# Altium schematic symbol library Schlib1.SchLib: 6 symbols
Pins are listed as number, name and electrical type; pins without a type are passive.

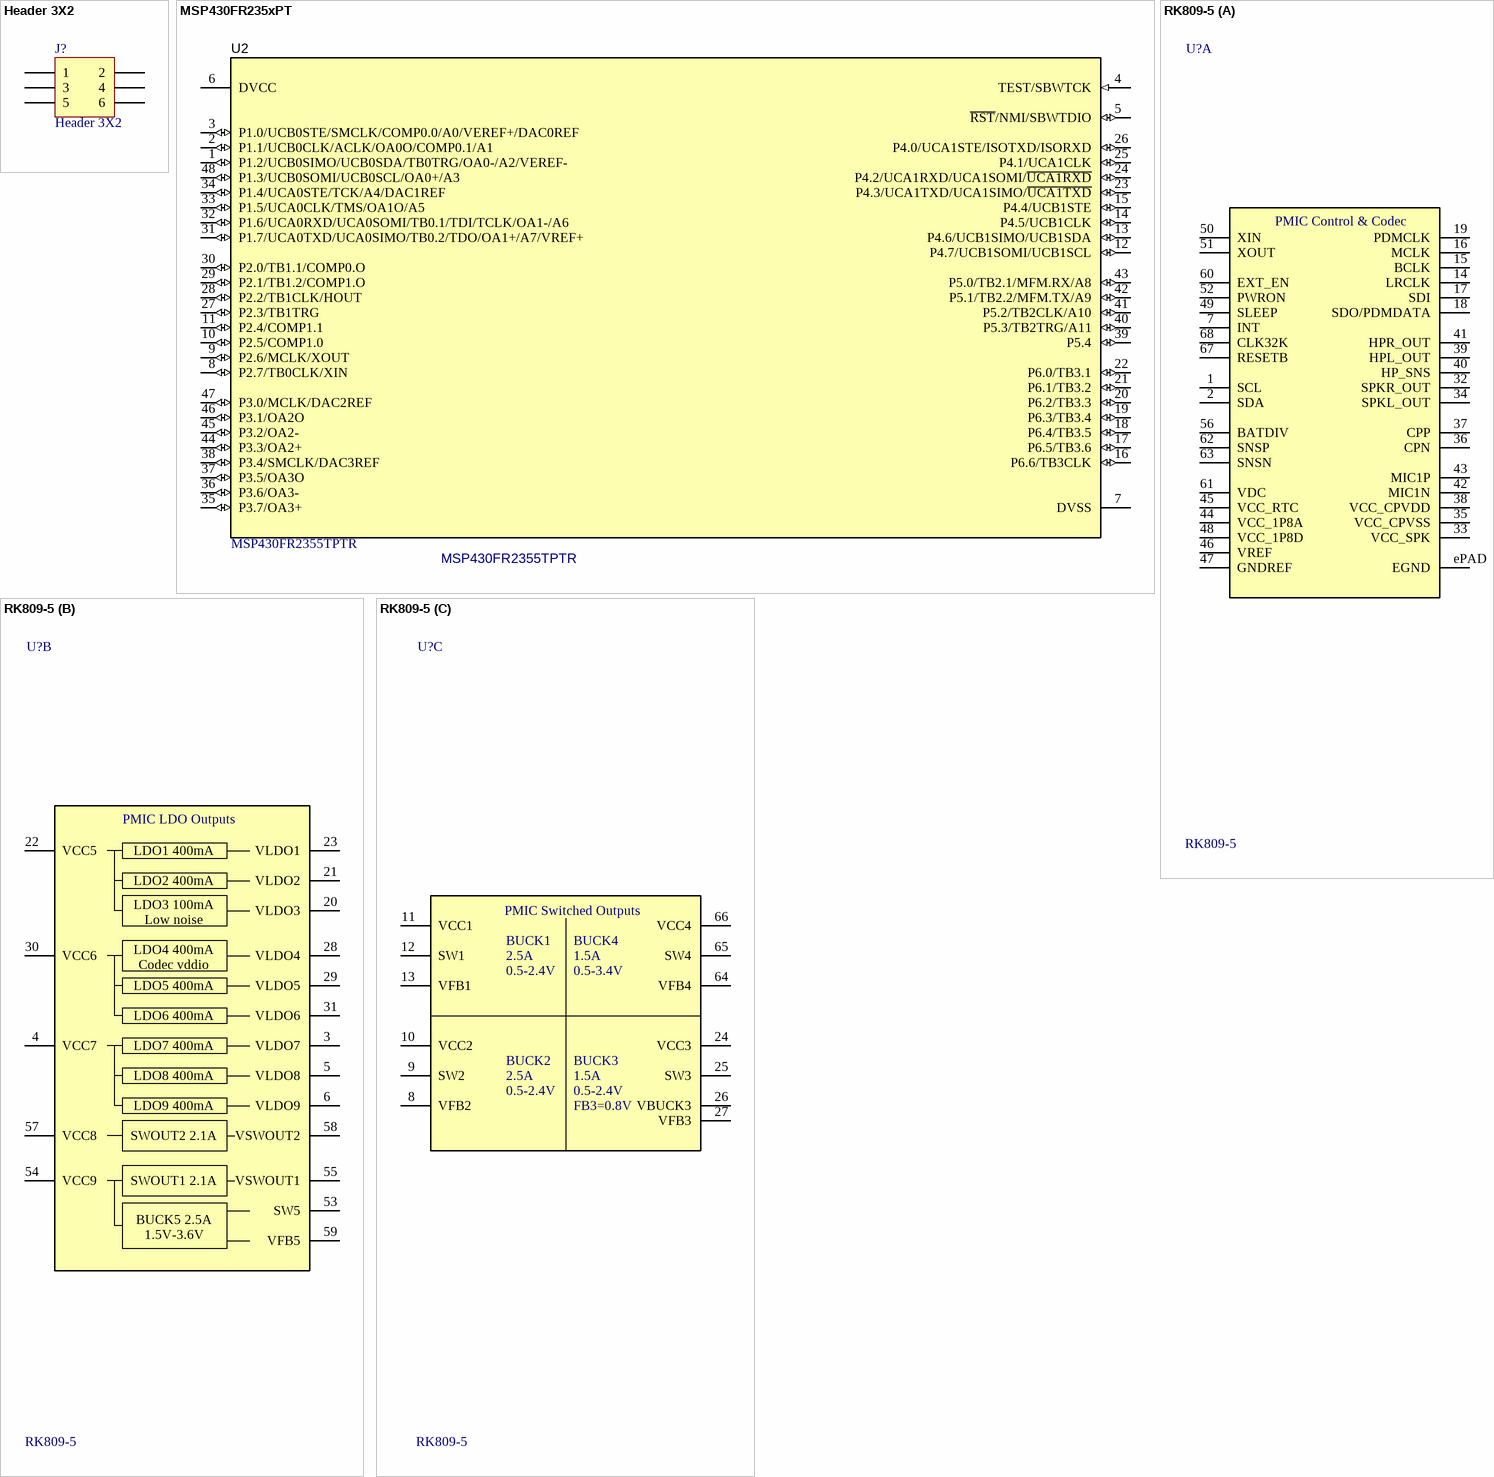
[diagram p0: symbols Header 3X2 to RK809-5]

## Header 3X2
designator J?
Header, 2-Pin, Dual row; Manufacturer: Harwin; Manufacturer Part Number 1: M20-9980346; Part Description: Connector Header Through Hole 6 position 0.100" (2.54mm); Contact Resistance: 25mR; Max Current Rating: 3A; Number of Positions: 6; Gender: Male; Connector Type: Male Pin; Insulation Resistance: 10GR; Pitch: 2.54mm; Row Spacing: 0.1inch; Supplier 1: Digi-Key; Supplier Part Number 1: 952-2121-ND; RoHS: Yes; Stock 1: 46604; Pricing 1: 1 = 0,24000, 10 = 0,22900, 100 = 0,15860, 500 = 0,13420, 1000 = 0,10980, 5000 = 0,09760, 10000 = 0,08845 (USD); Mount: Through Hole; Color: Black; Contact Material: Brass,Bronze; Housing Color: Black; Housing Material: Nylon; Contact Plating: Tin; Min Operating Temperature: -40°C; Max Operating Temperature: 105°C; Package Quantity: 1000; Packaging: Bag; Termination: Solder; Number of Rows: 2; Number of Contacts: 6; Orientation: Straight; Current Rating: 3A; Length: 7.62mm; Depth: 5.08mm; Contact Mating Length: 0.24inch; Radiation Hardening: No; REACH SVHC: No SVHC; ComponentLink1URL: http://uk.rs-online.com/webdocs/1406/0900766b81406898.pdf; ComponentLink1Description: http://uk.rs-online.com/webdocs/1406/0900766b81406898.pdf; ComponentLink2URL: https://www.verical.com/server-webapp/html/getDatasheet?partID=483857; ComponentLink2Description: https://www.verical.com/server-webapp/html/getDatasheet?partID=483857; ComponentLink3URL: http://www.farnell.com/cad/112195.pdf; ComponentLink3Description: http://www.farnell.com/cad/112195.pdf
footprint Header3x2
pins: 1, 2, 3, 4, 5, 6

## MSP430FR235xPT
designator U2, comment MSP430FR2355TPTR
Mixed-Signal Microcontroller, PT0048A (LQFP-48); Manufacturer: Texas Instruments; SizeX_mm: 9; CompType: IC; SizeZ_mm: 1.6; SizeArea_mm2: 81; SizeAreaWB_mm2: 121; U/M: EA; PackageDescription: LQFP-48; ComponentLink1URL: https://sps06.itg.ti.com/sites/KMS/crossdivteams/altium/docs/ComponentDatasheets/SLASEC4_MSP430FR2355.int.1.0.pdf; ComponentLink1Description: Datasheet Link; LatestRevisionDate: 2017-03-09; SizeY_mm: 9; Publisher: Texas Instruments; PackageReference: PT0048A; MountType: SMT; Alternate Manufacturer: Texas Instruments; PartNumber: MSP430FR2355TPTR
footprint PT0048A_N (Thin QFP, 48-Leads, Body 7x7mm, Pitch 0.5mm, IPC Medium Density)
footprint PT0048A_L (Thin QFP, 48-Leads, Body 7x7mm, Pitch 0.5mm, IPC High Density)
footprint PT0048A_M (Thin QFP, 48-Leads, Body 7x7mm, Pitch 0.5mm, IPC Low Density)
pins: 1 P1.2/UCB0SIMO/UCB0SDA/TB0TRG/OA0-/A2/VEREF- (io), 2 P1.1/UCB0CLK/ACLK/OA0O/COMP0.1/A1 (io), 3 P1.0/UCB0STE/SMCLK/COMP0.0/A0/VEREF+/DAC0REF (io), 4 TEST/SBWTCK (in), 5 ~{RST}/NMI/SBWTDIO (io), 6 DVCC (power), 7 DVSS (power), 8 P2.7/TB0CLK/XIN (io), 9 P2.6/MCLK/XOUT (io), 10 P2.5/COMP1.0 (io), 11 P2.4/COMP1.1 (io), 12 P4.7/UCB1SOMI/UCB1SCL (io), 13 P4.6/UCB1SIMO/UCB1SDA (io), 14 P4.5/UCB1CLK (io), 15 P4.4/UCB1STE (io), 16 P6.6/TB3CLK (io), 17 P6.5/TB3.6 (io), 18 P6.4/TB3.5 (io), 19 P6.3/TB3.4 (io), 20 P6.2/TB3.3 (io), 21 P6.1/TB3.2 (io), 22 P6.0/TB3.1 (io), 23 P4.3/UCA1TXD/UCA1SIMO/~{UCA1TXD} (io), 24 P4.2/UCA1RXD/UCA1SOMI/~{UCA1RXD} (io), 25 P4.1/UCA1CLK (io), 26 P4.0/UCA1STE/ISOTXD/ISORXD (io), 27 P2.3/TB1TRG (io), 28 P2.2/TB1CLK/HOUT (io), 29 P2.1/TB1.2/COMP1.O (io), 30 P2.0/TB1.1/COMP0.O (io), 31 P1.7/UCA0TXD/UCA0SIMO/TB0.2/TDO/OA1+/A7/VREF+ (io), 32 P1.6/UCA0RXD/UCA0SOMI/TB0.1/TDI/TCLK/OA1-/A6 (io), 33 P1.5/UCA0CLK/TMS/OA1O/A5 (io), 34 P1.4/UCA0STE/TCK/A4/DAC1REF (io), 35 P3.7/OA3+ (io), 36 P3.6/OA3- (io), 37 P3.5/OA3O (io), 38 P3.4/SMCLK/DAC3REF (io), 39 P5.4 (io), 40 P5.3/TB2TRG/A11 (io), 41 P5.2/TB2CLK/A10 (io), 42 P5.1/TB2.2/MFM.TX/A9 (io), 43 P5.0/TB2.1/MFM.RX/A8 (io), 44 P3.3/OA2+ (io), 45 P3.2/OA2- (io), 46 P3.1/OA2O (io), 47 P3.0/MCLK/DAC2REF (io), 48 P1.3/UCB0SOMI/UCB0SCL/OA0+/A3 (io)

## RK809-5
designator U?  PartNumber: RK809-5  (hidden comment: *)
PMIC for Realtek microprocessors. QFN68 (7x7); Value: *; ComponentLink1Description: DataSheet; ComponentLink1URL: https://doc.inmys.ru/open?hash=b56d315854d8f1360d0c6d279788734c
footprint QFN35P700X700X80_HS-69N (SMD)
part A pins: 1 SCL, 2 SDA, 7 INT, 14 LRCLK, 15 BCLK, 16 MCLK, 17 SDI, 18 SDO/PDMDATA, 19 PDMCLK, 32 SPKR_OUT, 33 VCC_SPK, 34 SPKL_OUT, 35 VCC_CPVSS, 36 CPN, 37 CPP, 38 VCC_CPVDD, 39 HPL_OUT, 40 HP_SNS, 41 HPR_OUT, 42 MIC1N, 43 MIC1P, 44 VCC_1P8A, 45 VCC_RTC, 46 VREF, 47 GNDREF, 48 VCC_1P8D, 49 SLEEP, 50 XIN, 51 XOUT, 52 PWRON, 56 BATDIV, 60 EXT_EN, 61 VDC, 62 SNSP, 63 SNSN, 67 RESETB, 68 CLK32K, ePAD EGND
part B pins: 3 VLDO7, 4 VCC7, 5 VLDO8, 6 VLDO9, 20 VLDO3, 21 VLDO2, 22 VCC5, 23 VLDO1, 28 VLDO4, 29 VLDO5, 30 VCC6, 31 VLDO6, 53 SW5, 54 VCC9, 55 VSWOUT1, 57 VCC8, 58 VSWOUT2, 59 VFB5
part C pins: 8 VFB2, 9 SW2, 10 VCC2, 11 VCC1, 12 SW1, 13 VFB1, 24 VCC3, 25 SW3, 26 VBUCK3, 27 VFB3, 64 VFB4, 65 SW4, 66 VCC4
part A text: PMIC Control & Codec
part B text: PMIC LDO Outputs; LDO1 400mA; LDO2 400mA; LDO3 100mA / Low noise; LDO4 400mA / Codec vddio; LDO5 400mA; LDO6 400mA; LDO7 400mA; LDO8 400mA; LDO9 400mA; SWOUT2 2.1A; SWOUT1 2.1A; BUCK5 2.5A / 1.5V-3.6V
part C text: PMIC Switched Outputs; BUCK1; BUCK4; 2.5A; 1.5A; 0.5-2.4V; 0.5-3.4V; BUCK2; BUCK3; FB3=0.8V

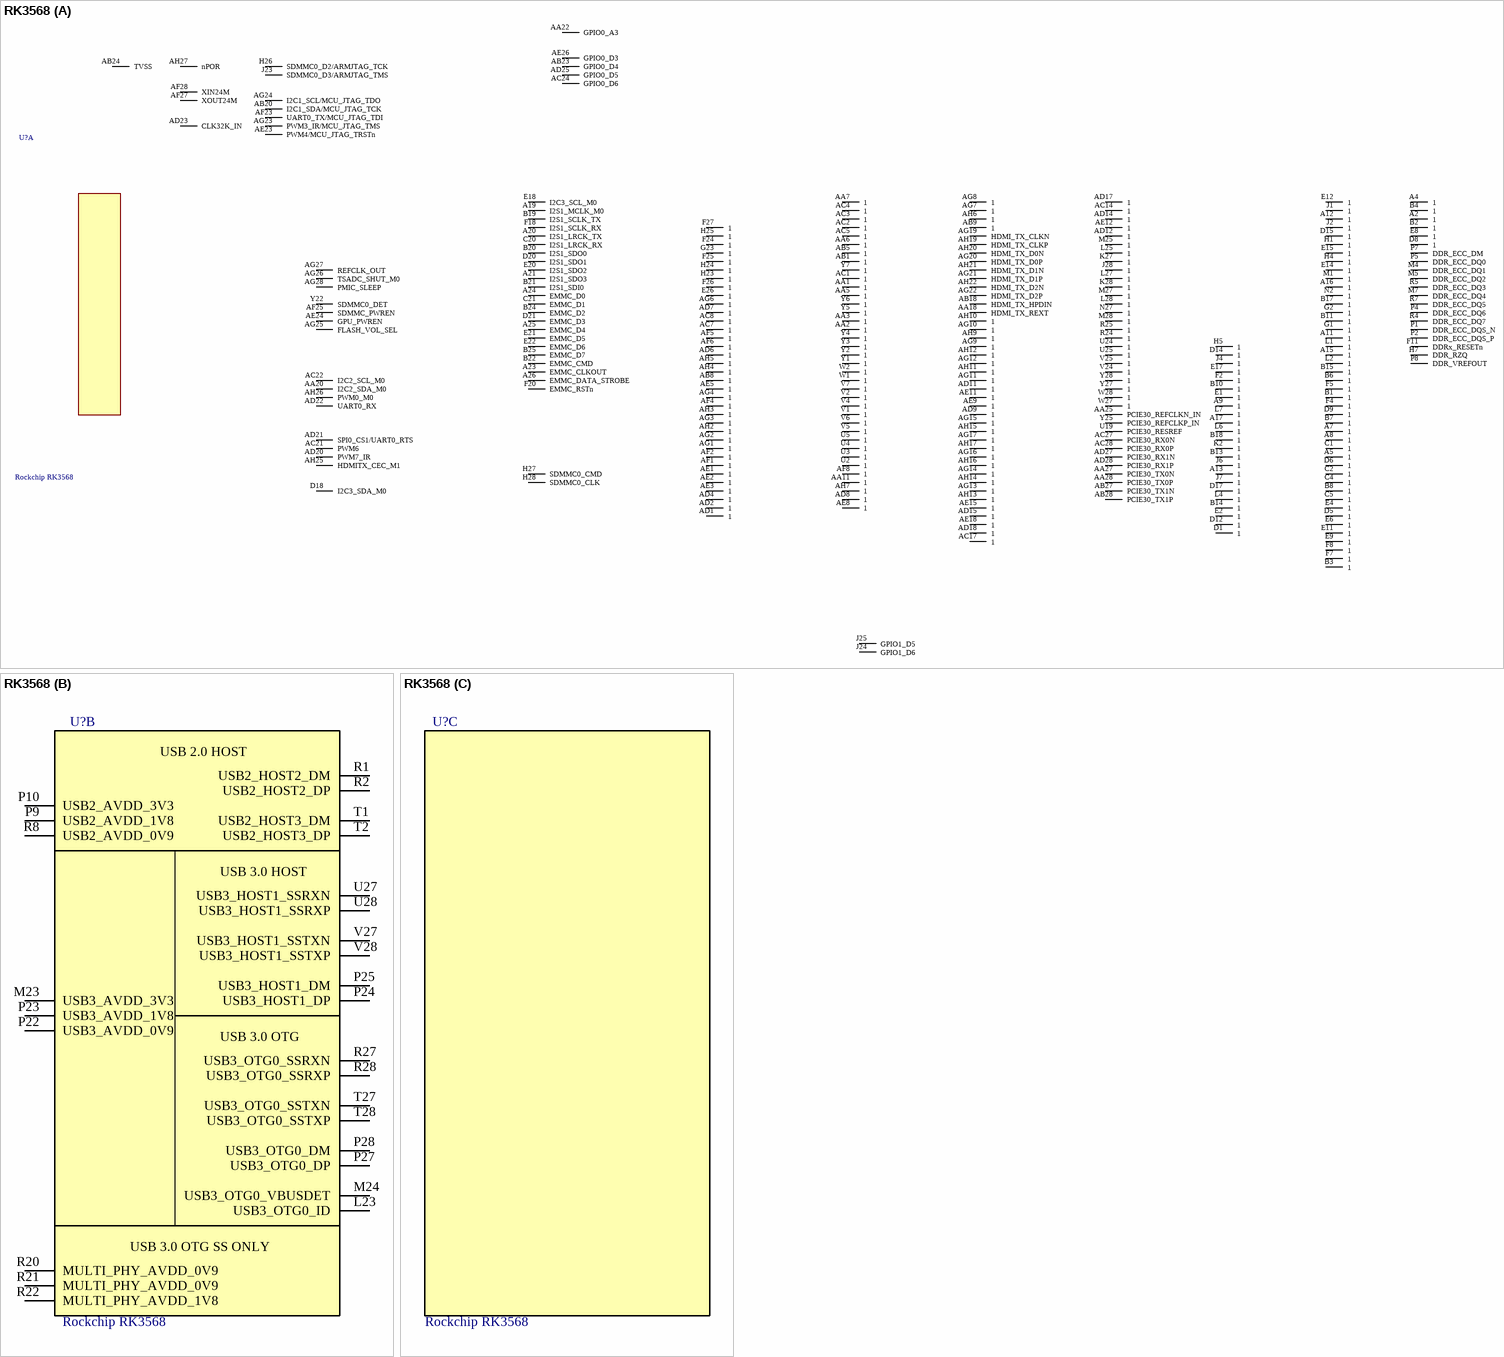
[diagram p1: symbol RK3568]

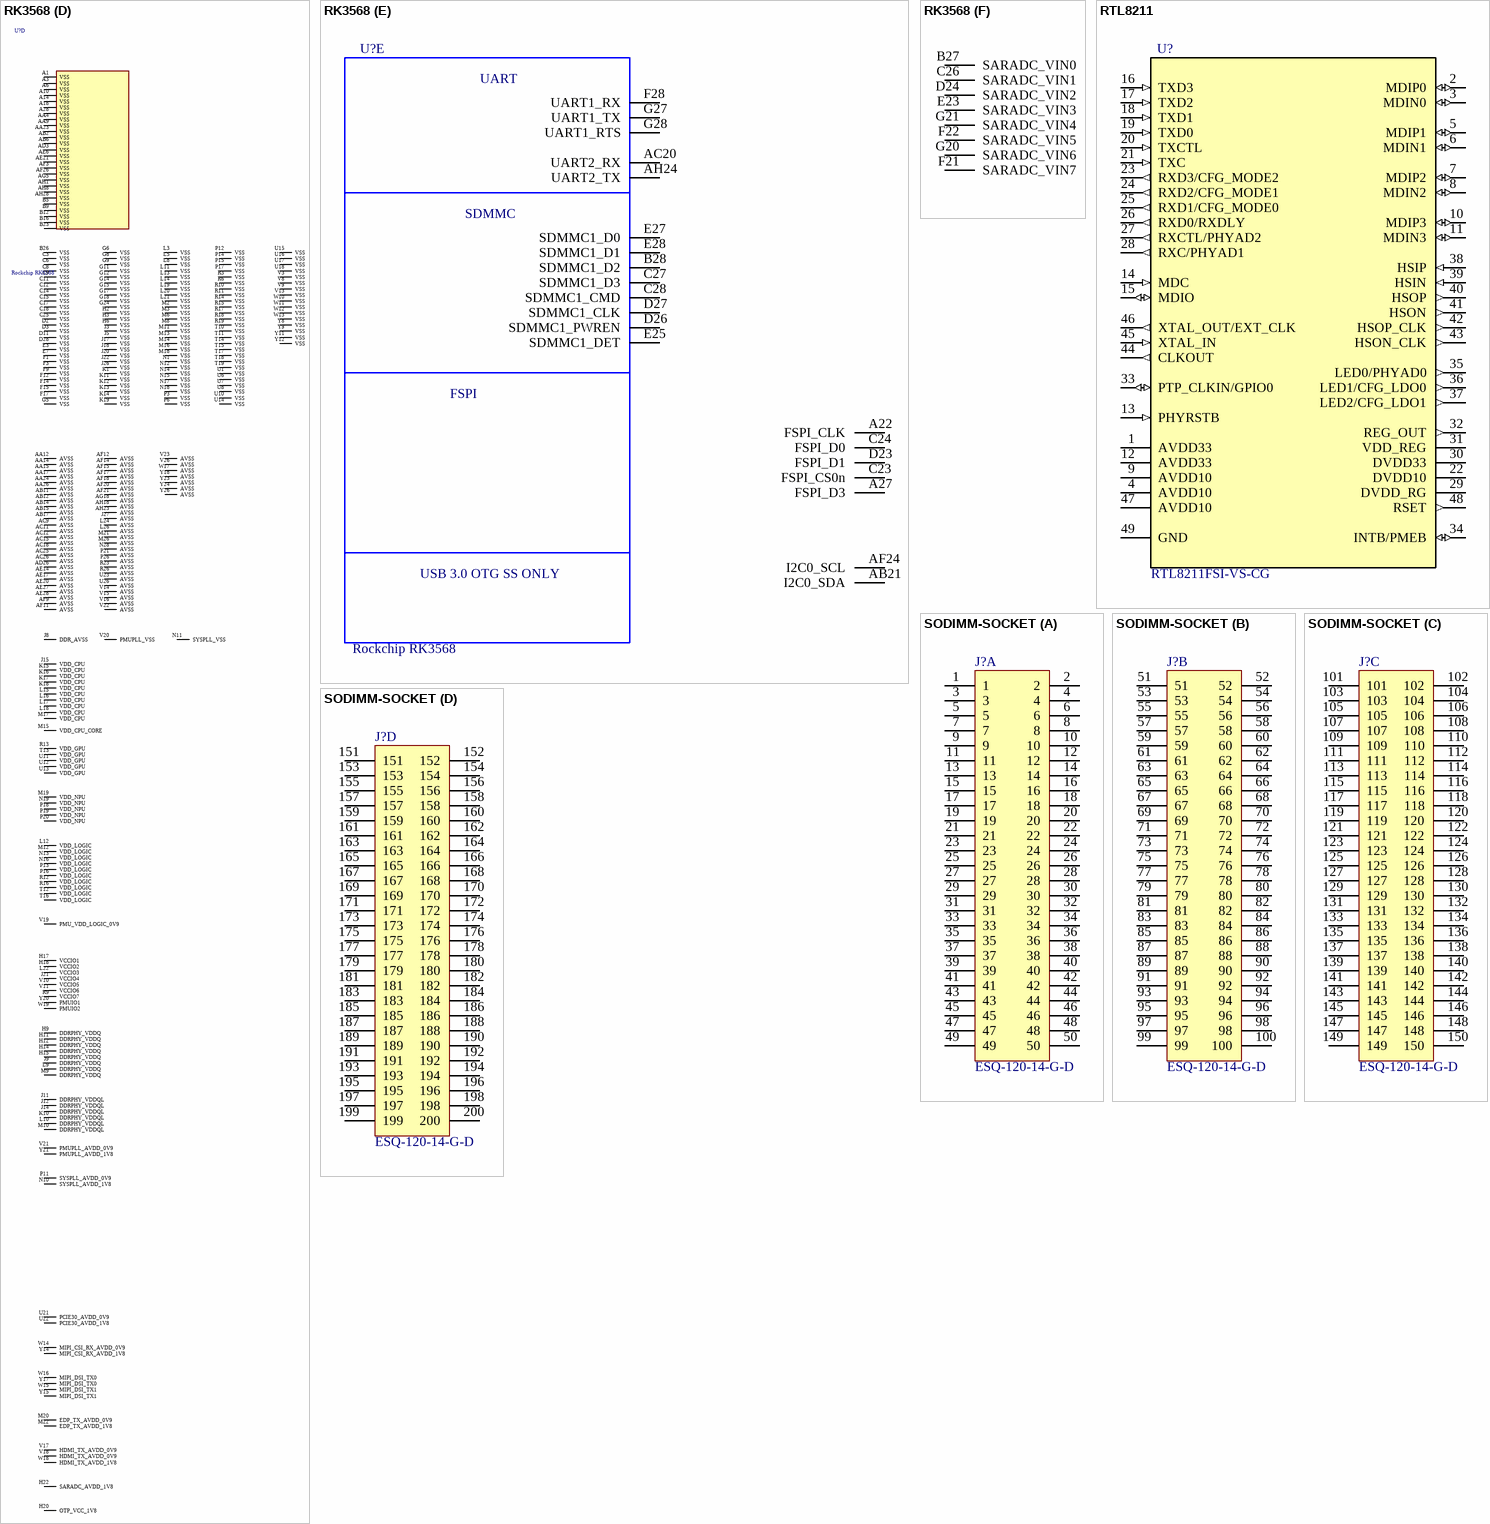
[diagram p2: symbols RK3568 to SODIMM-SOCKET]

## RK3568
designator U?  PartNumber: Rockchip RK3568  (hidden comment: *)
Rockchip RK3568 Quad-core Cortex-A55, 2.0GHz; Manufacturer: TE Connectivity; Manufacturer Part Number: 1717254-4; Connector Type: Receptacle; Number of Positions: 200; Number of Positions Loaded: All; Pitch: 0.100" (2.54mm); .Creator: MM; Supplier 1: Digi-Key; RoHS: RoHS Compliant; Category: Connectors, Interconnects; Stock 1: 51; Pricing 1: 1=7.42, 10=6.864, 50=6.1586, 100=5.7505, 250=5.00852, 500=4.823, 1000=4.6375, 2500=4.452 (USD); Packaging: Tape & Reel; Contact Type: Female Socket; Number of Rows: 2; Row Spacing: 0.100" (2.54mm); Mounting Type: Through Hole; Termination: Solder; Fastening Type: -; Features: -; Contact Finish: Gold; Contact Finish Thickness: 20µin (0.51µm); Color: Black; ComponentLink1URL: https://wiki.inmys.ru/doku.php?id=wiki:cmp:proc:rockchip-rk3568:start; ComponentLink1Description: DataSheet; Supplier Part Number 1: SAM8767-ND; .Checked PCB: MM; .Checked SCH: MM; Value: *
footprint FCBGA636L (SMD)
part A pins: A2 1, A4 1, A5 1, A7 1, A8 1, A9 1, A11 1, A12 1, A13 1, A15 1, A16 1, A17 1, A19 I2S1_MCLK_M0, A20 I2S1_LRCK_TX, A21 I2S1_SDO3, A23 EMMC_CLKOUT, A24 EMMC_D0, A25 EMMC_D4, A26 EMMC_DATA_STROBE, AA1 1, AA2 1, AA3 1, AA5 1, AA6 1, AA7 1, AA11 1, AA18 HDMI_TX_REXT, AA20 I2C2_SDA_M0, AA22 GPIO0_A3, AA25 PCIE30_REFCLKN_IN, AA27 PCIE30_TX0N, AA28 PCIE30_TX0P, AB1 1, AB5 1, AB8 1, AB9 1, AB18 HDMI_TX_HPDIN, AB20 I2C1_SDA/MCU_JTAG_TCK, AB23 GPIO0_D4, AB24 TVSS, AB27 PCIE30_TX1N, AB28 PCIE30_TX1P, AC1 1, AC2 1, AC3 1, AC4 1, AC5 1, AC7 1, AC8 1, AC14 1, AC17 1, AC21 PWM6, AC22 I2C2_SCL_M0, AC24 GPIO0_D6, AC27 PCIE30_RX0N, AC28 PCIE30_RX0P, AD1 1, AD2 1, AD4 1, AD6 1, AD7 1, AD8 1, AD9 1, AD11 1, AD12 1, AD14 1, AD15 1, AD17 1, AD18 1, AD20 PWM7_IR, AD21 SPI0_CS1/UART0_RTS, AD22 UART0_RX, AD23 CLK32K_IN, AD25 GPIO0_D5, AD27 PCIE30_RX1N, AD28 PCIE30_RX1P, AE1 1, AE2 1, AE3 1, AE5 1, AE8 1, AE9 1, AE11 1, AE12 1, AE15 1, AE18 1, AE23 PWM4/MCU_JTAG_TRSTn, AE24 GPU_PWREN, AE26 GPIO0_D3, AF1 1, AF2 1, AF4 1, AF5 1, AF6 1, AF8 1, AF23 UART0_TX/MCU_JTAG_TDI, AF25 SDMMC_PWREN, AF27 XOUT24M, AF28 XIN24M, AG1 1, AG2 1, AG3 1, AG4 1, AG6 1, AG7 1, AG8 1, AG9 1, AG10 1, AG11 1, AG12 1, AG13 1, AG14 1, AG15 1, AG16 1, AG17 1, AG19 HDMI_TX_CLKN, AG20 HDMI_TX_D0P, AG21 HDMI_TX_D1P, AG22 HDMI_TX_D2P, AG23 PWM3_IR/MCU_JTAG_TMS, AG24 I2C1_SCL/MCU_JTAG_TDO, AG25 FLASH_VOL_SEL, AG26 TSADC_SHUT_M0, AG27 REFCLK_OUT, AG28 PMIC_SLEEP, AH2 1, AH3 1, AH4 1, AH5 1, AH6 1, AH7 1, AH9 1, AH10 1, AH11 1, AH12 1, AH13 1, AH14 1, AH15 1, AH16 1, AH17 1, AH19 HDMI_TX_CLKP, AH20 HDMI_TX_D0N, AH21 HDMI_TX_D1N, AH22 HDMI_TX_D2N, AH25 HDMITX_CEC_M1, AH26 PWM0_M0, AH27 nPOR, B1 1, B2 1, B3 1, B4 1, B6 1, B7 1, B8 1, B10 1, B11 1, B13 1, B14 1, B15 1, B17 1, B18 1, B19 I2S1_SCLK_TX, B20 I2S1_SDO0, B21 I2S1_SDI0, B22 EMMC_CMD, B24 EMMC_D2, B25 EMMC_D7, C1 1, C2 1, C4 1, C5 1, C20 I2S1_LRCK_RX, C21 EMMC_D1, D1 1, D5 1, D6 1, D8 1, D9 1, D12 1, D14 1, D15 1, D17 1, D18 I2C3_SDA_M0, D20 I2S1_SDO1, D21 EMMC_D3, E1 1, E2 1, E4 1, E6 1, E8 1, E9 1, E11 1, E12 1, E14 1, E15 1, E17 1, E18 I2C3_SCL_M0, E20 I2S1_SDO2, E21 EMMC_D5, E22 EMMC_D6, E26 1, F2 1, F4 1, F5 1, F7 1, F8 1, F11 DDRx_RESETn, F18 I2S1_SCLK_RX, F20 EMMC_RSTn, F24 1, F25 1, F26 1, F27 1, G1 1, G2 1, G23 1, H1 1, H4 1, H5 1, H7 DDR_RZQ, H23 1, H24 1, H25 1, H26 SDMMC0_D2/ARMJTAG_TCK, H27 SDMMC0_CMD, H28 SDMMC0_CLK, J1 1, J2 1, J4 1, J6 1, J7 1, J23 SDMMC0_D3/ARMJTAG_TMS, J24 GPIO1_D6, J25 GPIO1_D5, J28 1, K2 1, K27 1, K28 1, L1 1, L2 1, L4 1, L6 1, L7 1, L25 1, L27 1, L28 1, M1 1, M4 DDR_ECC_DQ1, M5 DDR_ECC_DQ2, M7 DDR_ECC_DQ4, M25 1, M27 1, M28 1, N2 1, N27 1, P1 DDR_ECC_DQS_N, P2 DDR_ECC_DQS_P, P4 DDR_ECC_DQ6, P5 DDR_ECC_DQ0, P7 DDR_ECC_DM, P8 DDR_VREFOUT, R4 DDR_ECC_DQ7, R5 DDR_ECC_DQ3, R7 DDR_ECC_DQ5, R24 1, R25 1, U2 1, U3 1, U4 1, U5 1, U19 PCIE30_RESREF, U24 1, U25 1, V1 1, V2 1, V4 1, V5 1, V6 1, V7 1, V24 1, V25 1, W1 1, W2 1, W27 1, W28 1, Y1 1, Y2 1, Y3 1, Y4 1, Y5 1, Y6 1, Y7 1, Y22 SDMMC0_DET, Y25 PCIE30_REFCLKP_IN, Y27 1, Y28 1
part B pins: L23 USB3_OTG0_ID, M23 USB3_AVDD_3V3 (power), M24 USB3_OTG0_VBUSDET, P9 USB2_AVDD_1V8 (power), P10 USB2_AVDD_3V3 (power), P22 USB3_AVDD_0V9 (power), P23 USB3_AVDD_1V8 (power), P24 USB3_HOST1_DP, P25 USB3_HOST1_DM, P27 USB3_OTG0_DP, P28 USB3_OTG0_DM, R1 USB2_HOST2_DM, R2 USB2_HOST2_DP, R8 USB2_AVDD_0V9 (power), R20 MULTI_PHY_AVDD_0V9 (power), R21 MULTI_PHY_AVDD_0V9 (power), R22 MULTI_PHY_AVDD_1V8 (power), R27 USB3_OTG0_SSRXN, R28 USB3_OTG0_SSRXP, T1 USB2_HOST3_DM, T2 USB2_HOST3_DP, T27 USB3_OTG0_SSTXN, T28 USB3_OTG0_SSTXP, U27 USB3_HOST1_SSRXN, U28 USB3_HOST1_SSRXP, V27 USB3_HOST1_SSTXN, V28 USB3_HOST1_SSTXP
part D pins: A1 VSS (power), A3 VSS (power), A6 VSS (power), A10 VSS (power), A14 VSS (power), A18 VSS (power), A28 VSS (power), AA4 VSS (power), AA9 VSS (power), AA12 AVSS (power), AA14 AVSS (power), AA15 AVSS (power), AA17 AVSS (power), AA23 VSS (power), AA24 AVSS (power), AA26 AVSS (power), AB2 VSS (power), AB6 VSS (power), AB11 AVSS (power), AB12 AVSS (power), AB14 AVSS (power), AB15 AVSS (power), AB17 AVSS (power), AC9 AVSS (power), AC11 AVSS (power), AC12 AVSS (power), AC15 AVSS (power), AC18 AVSS (power), AC25 AVSS (power), AC26 AVSS (power), AD3 VSS (power), AD26 AVSS (power), AE6 VSS (power), AE14 AVSS (power), AE17 AVSS (power), AE20 AVSS (power), AE21 VSS (power), AE27 AVSS (power), AE28 AVSS (power), AF3 VSS (power), AF9 AVSS (power), AF11 AVSS (power), AF12 AVSS (power), AF14 AVSS (power), AF15 AVSS (power), AF17 AVSS (power), AF18 AVSS (power), AF20 AVSS (power), AF21 AVSS (power), AF26 VSS (power), AG5 VSS (power), AG18 AVSS (power), AH1 VSS (power), AH8 VSS (power), AH18 AVSS (power), AH23 AVSS (power), AH28 VSS (power), B5 VSS (power), B9 VSS (power), B12 VSS (power), B16 VSS (power), B23 VSS (power), B26 VSS (power), C3 VSS (power), C6 VSS (power), C8 VSS (power), C9 VSS (power), C11 VSS (power), C12 VSS (power), C14 VSS (power), C15 VSS (power), C17 VSS (power), C18 VSS (power), C25 VSS (power), D2 VSS (power), D3 VSS (power), D11 VSS (power), D28 VSS (power), E3 VSS (power), E7 VSS (power), F1 VSS (power), F3 VSS (power), F9 VSS (power), F12 VSS (power), F14 VSS (power), F15 VSS (power), F17 VSS (power), G5 VSS (power), G6 VSS (power), G8 VSS (power), G9 VSS (power), G11 VSS (power), G12 VSS (power), G14 VSS (power), G15 VSS (power), G17 VSS (power), G18 VSS (power), G24 VSS (power), H2 VSS (power), H3 VSS (power), H6 VSS (power), H9 DDRPHY_VDDQ (power), H11 DDRPHY_VDDQ (power), H12 DDRPHY_VDDQ (power), H14 DDRPHY_VDDQ (power), H15 DDRPHY_VDDQ (power), H17 VCCIO1 (power), H18 VCCIO2 (power), H20 OTP_VCC_1V8 (power), H22 SARADC_AVDD_1V8 (power), J3 VSS (power), J5 VSS (power), J8 DDR_AVSS (power), J9 DDRPHY_VDDQ (power), J11 DDRPHY_VDDQL (power), J12 DDRPHY_VDDQL (power), J14 DDRPHY_VDDQL (power), J15 VDD_CPU (power), J17 VSS (power), J18 VSS (power), J20 VSS (power), J21 VCCIO4 (power), J22 VSS (power), J26 VSS (power), J27 AVSS (power), K1 VSS (power), K10 DDRPHY_VDDQL (power), K11 VSS (power), K12 VSS (power), K13 VSS (power), K14 VSS (power), K15 VDD_CPU (power), K16 VDD_CPU (power), K17 VDD_CPU (power), K18 VDD_CPU (power), K19 VSS (power), L3 VSS (power), L5 VSS (power), L8 VSS (power), L9 DDRPHY_VDDQ (power), L10 DDRPHY_VDDQL (power), L11 VSS (power), L12 VDD_LOGIC (power), L13 VSS (power), L14 VSS (power), L15 VDD_CPU (power), L16 VDD_CPU (power), L17 VDD_CPU (power), L18 VDD_CPU (power), L19 VSS (power), L20 VSS (power), L21 VSS (power), L22 VCCIO3 (power), L24 AVSS (power), L26 AVSS (power), M2 VSS (power), M3 VSS (power), M6 VSS (power), M8 VSS (power), M9 DDRPHY_VDDQ (power), M10 DDRPHY_VDDQL (power), M11 VSS (power), M12 VDD_LOGIC (power), M13 VSS (power), M14 VSS (power), M15 VDD_CPU_CORE (power), M16 VSS (power), M17 VDD_CPU (power), M18 VSS (power), M19 VDD_NPU (power), M20 EDP_TX_AVDD_0V9 (power), M21 AVSS (power), M22 EDP_TX_AVDD_1V8 (power), M26 AVSS (power), N1 VSS (power), N10 SYSPLL_AVDD_1V8 (power), N11 SYSPLL_VSS (power), N12 VSS (power), N13 VDD_LOGIC (power), N14 VSS (power), N15 VSS (power), N16 VDD_LOGIC (power), N17 VSS (power), N18 VSS (power), N19 VDD_NPU (power), N28 AVSS (power), P3 VSS (power), P6 VSS (power), P11 SYSPLL_AVDD_0V9 (power), P12 VSS (power), P13 VDD_LOGIC (power), P14 VSS (power), P15 VSS (power), P16 VDD_LOGIC (power), P17 VSS (power), P18 VDD_NPU (power), P19 VDD_NPU (power), P20 VDD_NPU (power), P21 AVSS (power), P26 AVSS (power), R3 VSS (power), R6 VSS (power), R9 VCCIO7 (power), R10 VSS (power), R11 VSS (power), R12 VDD_LOGIC (power), R13 VDD_GPU (power), R14 VSS (power), R15 VSS (power), R16 VDD_LOGIC (power), R17 VSS (power), R18 VSS (power), R19 VSS (power), R23 AVSS (power), R26 AVSS (power), T10 VSS (power), T11 VSS (power), T12 VDD_LOGIC (power), T13 VDD_GPU (power), T14 VSS (power), T15 VSS (power), T16 VDD_LOGIC (power), T17 VSS (power), T18 VSS (power), T19 VSS (power), U1 VSS (power), U6 VSS (power), U7 VSS (power), U8 VSS (power), U10 VSS (power), U11 VDD_GPU (power), U12 VDD_GPU (power), U13 VDD_GPU (power), U14 VSS (power), U15 VSS (power), U16 VSS (power), U17 VSS (power), U18 VSS (power), U21 PCIE30_AVDD_0V9 (power), U22 PCIE30_AVDD_1V8 (power), U23 AVSS (power), U26 AVSS (power), V3 VSS (power), V8 VSS (power), V9 VSS (power), V10 VCCIO5 (power), V11 VCCIO6 (power), V13 VSS (power), V14 AVSS (power), V15 AVSS (power), V16 AVSS (power), V17 HDMI_TX_AVDD_0V9 (power), V18 HDMI_TX_AVDD_0V9 (power), V19 PMU_VDD_LOGIC_0V9 (power), V20 PMUPLL_VSS (power), V21 PMUPLL_AVDD_0V9 (power), V22 AVSS (power), V23 AVSS (power), V26 AVSS (power), W10 VSS (power), W11 VSS (power), W12 VSS (power), W13 VSS (power), W14 MIPI_CSI_RX_AVDD_0V9 (power), W15 MIPI_DSI_TX1 (power), W16 MIPI_DSI_TX0 (power), W17 AVSS (power), W18 HDMI_TX_AVDD_1V8 (power), W19 PMUIO2 (power), Y8 VSS (power), Y9 VSS (power), Y11 VSS (power), Y12 VSS (power), Y14 MIPI_CSI_RX_AVDD_1V8 (power), Y15 MIPI_DSI_TX1 (power), Y17 MIPI_DSI_TX0 (power), Y18 AVSS (power), Y20 PMUIO1 (power), Y21 PMUPLL_AVDD_1V8 (power), Y23 AVSS (power), Y24 AVSS (power), Y26 AVSS (power)
part E pins: A22 FSPI_CLK, A27 FSPI_D3, AB21 I2C0_SDA, AC20 UART2_RX, AF24 I2C0_SCL, AH24 UART2_TX, B28 SDMMC1_D2, C23 FSPI_CS0n, C24 FSPI_D0, C27 SDMMC1_D3, C28 SDMMC1_CMD, D23 FSPI_D1, D26 SDMMC1_PWREN, D27 SDMMC1_CLK, E25 SDMMC1_DET, E27 SDMMC1_D0, E28 SDMMC1_D1, F28 UART1_RX, G27 UART1_TX, G28 UART1_RTS
part F pins: B27 SARADC_VIN0, C26 SARADC_VIN1, D24 SARADC_VIN2, E23 SARADC_VIN3, F21 SARADC_VIN7, F22 SARADC_VIN5, G20 SARADC_VIN6, G21 SARADC_VIN4
part B text: USB 2.0 HOST; USB 3.0 HOST; USB 3.0 OTG; USB 3.0 OTG SS ONLY
part E text: UART; SDMMC; FSPI; USB 3.0 OTG SS ONLY

## RTL8211
designator U?, comment PartNumber: RTL8211FSI-VS-CG  (hidden comment: RTL8211FSI-VS-CG (REALTEK, QFN-48))
Integrated 10/100/1000M Ethernet precision  transceiver. Provides physical layer functions.; Value: RTL8211FSI-VS-CG (REALTEK, QFN-48); ComponentLink1Description: DataSheet; ComponentLink1URL: *
footprint QFN40P600X600X100V (SMD)
pins: 1 AVDD33 (power), 2 MDIP0 (io), 3 MDIN0 (io), 4 AVDD10 (power), 5 MDIP1 (io), 6 MDIN1 (io), 7 MDIP2 (io), 8 MDIN2 (io), 9 AVDD10 (power), 10 MDIP3 (io), 11 MDIN3 (io), 12 AVDD33 (power), 13 PHYRSTB (in), 14 MDC (in), 15 MDIO (io), 16 TXD3 (in), 17 TXD2 (in), 18 TXD1 (in), 19 TXD0 (in), 20 TXCTL (in), 21 TXC (in), 22 DVDD10 (power), 23 RXD3/CFG_MODE2 (out), 24 RXD2/CFG_MODE1 (out), 25 RXD1/CFG_MODE0 (out), 26 RXD0/RXDLY (out), 27 RXCTL/PHYAD2 (out), 28 RXC/PHYAD1 (out), 29 DVDD_RG (power), 30 DVDD33 (power), 31 VDD_REG (power), 32 REG_OUT (out), 33 PTP_CLKIN/GPIO0 (io), 34 INTB/PMEB (io), 35 LED0/PHYAD0 (out), 36 LED1/CFG_LDO0 (out), 37 LED2/CFG_LDO1 (out), 38 HSIP (in), 39 HSIN (in), 40 HSOP (out), 41 HSON (out), 42 HSOP_CLK (out), 43 HSON_CLK (out), 44 CLKOUT (out), 45 XTAL_IN (in), 46 XTAL_OUT/EXT_CLK (out), 47 AVDD10 (power), 48 RSET (out), 49 GND (power)

## SODIMM-SOCKET
designator J?, comment ESQ-120-14-G-D
CONN RCPT 40POS .100" DUAL GOLD; Manufacturer: TE Connectivity; Manufacturer Part Number: 1717254-4; Connector Type: Receptacle; Number of Positions: 200; Number of Positions Loaded: All; Pitch: 0.100" (2.54mm); .Creator: MM; Supplier 1: Digi-Key; RoHS: RoHS Compliant; Category: Connectors, Interconnects; Stock 1: 51; Pricing 1: 1=7.42, 10=6.864, 50=6.1586, 100=5.7505, 250=5.00852, 500=4.823, 1000=4.6375, 2500=4.452 (USD); Packaging: Tape & Reel; Contact Type: Female Socket; Number of Rows: 2; Row Spacing: 0.100" (2.54mm); Mounting Type: Through Hole; Termination: Solder; Fastening Type: -; Features: -; Contact Finish: Gold; Contact Finish Thickness: 20µin (0.51µm); Color: Black; ComponentLink1URL: https://www.te.com/usa-en/product-1717254-4.html; ComponentLink1Description: DataSheet; Supplier Part Number 1: SAM8767-ND; .Checked PCB: MM; .Checked SCH: MM
footprint SODIMM-200pin (Edge fingers)
part A pins: 1, 2, 3, 4, 5, 6, 7, 8, 9, 10, 11, 12, 13, 14, 15, 16, 17, 18, 19, 20, 21, 22, 23, 24, 25, 26, 27, 28, 29, 30, 31, 32, 33, 34, 35, 36, 37, 38, 39, 40, 41, 42, 43, 44, 45, 46, 47, 48, 49, 50
part B pins: 51, 52, 53, 54, 55, 56, 57, 58, 59, 60, 61, 62, 63, 64, 65, 66, 67, 68, 69, 70, 71, 72, 73, 74, 75, 76, 77, 78, 79, 80, 81, 82, 83, 84, 85, 86, 87, 88, 89, 90, 91, 92, 93, 94, 95, 96, 97, 98, 99, 100
part C pins: 101, 102, 103, 104, 105, 106, 107, 108, 109, 110, 111, 112, 113, 114, 115, 116, 117, 118, 119, 120, 121, 122, 123, 124, 125, 126, 127, 128, 129, 130, 131, 132, 133, 134, 135, 136, 137, 138, 139, 140, 141, 142, 143, 144, 145, 146, 147, 148, 149, 150
part D pins: 151, 152, 153, 154, 155, 156, 157, 158, 159, 160, 161, 162, 163, 164, 165, 166, 167, 168, 169, 170, 171, 172, 173, 174, 175, 176, 177, 178, 179, 180, 181, 182, 183, 184, 185, 186, 187, 188, 189, 190, 191, 192, 193, 194, 195, 196, 197, 198, 199, 200